# Altium schematic symbol library BD14000EFV.Schlib: 1 symbol
Pins are listed as number, name and electrical type; pins without a type are passive.

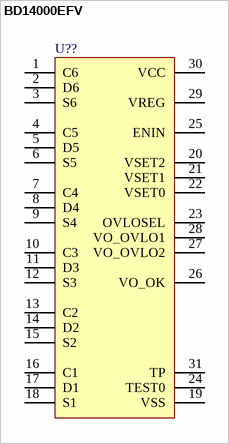
[diagram p0: symbol BD14000EFV]

## BD14000EFV
designator U??
pins: 1 C6 (power), 2 D6 (power), 3 S6 (power), 4 C5 (power), 5 D5 (power), 6 S5 (power), 7 C4 (power), 8 D4 (power), 9 S4 (power), 10 C3 (power), 11 D3 (power), 12 S3 (power), 13 C2 (power), 14 D2 (power), 15 S2 (power), 16 C1 (power), 17 D1 (power), 18 S1 (power), 19 VSS (power), 20 VSET2 (power), 21 VSET1 (power), 22 VSET0 (power), 23 OVLOSEL (power), 24 TEST0 (power), 25 ENIN (power), 26 VO_OK (power), 27 VO_OVLO2 (power), 28 VO_OVLO1 (power), 29 VREG (power), 30 VCC (power), 31 TP (power)